# Altium integrated library Logic Gates.IntLib: 7 symbols
Pins are listed as number, name and electrical type; pins without a type are passive.

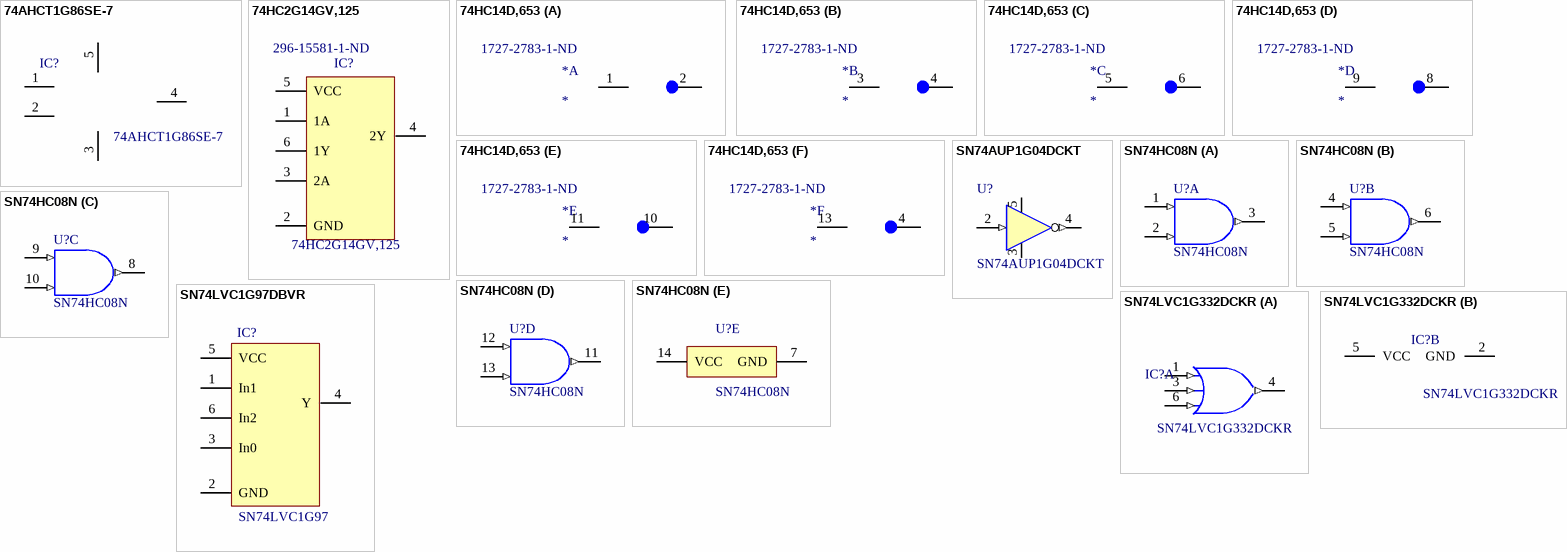
[diagram p0: symbols 74AHCT1G86SE-7 to SN74LVC1G332DCKR]

## 74AHCT1G86SE-7
designator IC?
IC GATE XOR 1CH 2-INP SOT-353; Manufacturer: Diodes Incorporated; Logic Type: XOR (Exclusive OR); Number of Circuits: 1; Number of Inputs: 2; Voltage - Supply: 4.5 V ~ 5.5 V; Current - Quiescent (Max): 1µA; Current - Output High, Low: 8mA, 8mA; Logic Level - Low: 0.8V; Logic Level - High: 2V; Max Propagation Delay @ V, Max CL: 7.9ns @ 5V, 50pF; Supplier 1: Digi-Key; Supplier Part Number 1: 74AHCT1G86SE-7DICT-ND; Manufacturer Part Number: 74AHCT1G86SE-7; RoHS: RoHS Compliant; Category: Integrated Circuits (ICs); Stock 1: 3689; Pricing 1: 1=0.25, 10=0.205, 100=0.1086, 500=0.07142, 1000=0.04866 (USD); Packaging: Cut Tape (CT); Features: -; Operating Temperature: -40°C ~ 125°C; Mounting Type: Surface Mount; Supplier Device Package: SOT-353; Package / Case: 5-TSSOP, SC-70-5, SOT-353; ComponentLink1URL: http://www.diodes.com/_files/datasheets/74AHCT1G86.pdf; ComponentLink1Description: http://www.diodes.com/_files/datasheets/74AHCT1G86.pdf; Value: 74AHCT1G86SE-7
footprint SOT65P197X110-5N (SOT23, 5-Leads, Body 2,00x1,97mm, Pitch 0,65mm, IPC Medium Density)
pins: 1 A, 2 B, 3 GND, 4 Y, 5 VCC

## 74HC2G14GV,125
designator IC?  Supplier Part Number 2: 296-15581-1-ND
IC INVERTER SCHMITT 2CH 6TSOP; Manufacturer: Nexperia; Min Supply Voltage: 1.65V; Max Supply Voltage: 5.5V; Logic Function: Multi Function; Quiescent Current: 10uA; Number of Inputs: 3; Propagation Delay: 6.3ns; Number of Circuits: 1; High Level Output Current: -32mA; Low Level Output Current: 32mA; Number of Input Lines: 2; Schmitt Trigger Input: Yes; Turn-On Delay Time: 6.1ns; Operating Supply Voltage: 5V; Supplier 1: Digi-Key; Manufacturer Part Number: 74HC2G14GV,125; Stock 1: 52335; Pricing 1: 1 = 0,37000, 10 = 0,29800, 25 = 0,27240, 100 = 0,20270, 250 = 0,18372, 500 = 0,15204, 1000 = 0,11403 (USD); RoHS: No; ComponentLink1URL: https://assets.nexperia.com/documents/data-sheet/74HC_HCT2G14.pdf?src-supplier=Digi-Key; ComponentLink1Description: https://assets.nexperia.com/documents/data-sheet/74HC_HCT2G14.pdf?src-supplier=Digi-Key; Supplier Part Number 1: 1727-6046-1-ND; Supplier 2: Digi-Key; Stock 2: 53949; Pricing 2: 1 = 0,38000, 10 = 0,28300, 100 = 0,17610, 500 = 0,12052, 1000 = 0,09270 (USD); Mount: Surface Mount; Case/Package: SOT-23; Number of Pins: 6; Weight: 0.000229oz; Contact Plating: Gold; Min Operating Temperature: -40°C; Max Operating Temperature: 125°C; Packaging: Tape and Reel; Package Quantity: 3000; Number of Gates: 1; Number of Output Lines: 1; Number of Bits: 1; Number of Outputs: 1; Number of Elements: 1; Output Current: 32mA; Max Output Current: 32mA; Termination: SMD/SMT; Length: 2.9mm; Height: 1.15mm; Width: 1.6mm; Radiation Hardening: No; Lead Free: Lead Free; REACH SVHC: No SVHC; ComponentLink2URL: https://datasheet.ciiva.com/34303/2017130-34303874.pdf?src-supplier=Jameco; ComponentLink2Description: https://datasheet.ciiva.com/34303/2017130-34303874.pdf?src-supplier=Jameco; ComponentLink3URL: https://datasheet.ciiva.com/6124/1768118-6124640.pdf?src-supplier=Farnell; ComponentLink3Description: https://datasheet.ciiva.com/6124/1768118-6124640.pdf?src-supplier=Farnell; ComponentLink4URL: https://datasheet.ciiva.com/1880/sn74lvc1g97-1880068.pdf?src-supplier=Digi-Key; ComponentLink4Description: https://datasheet.ciiva.com/1880/sn74lvc1g97-1880068.pdf?src-supplier=Digi-Key; ComponentLink5URL: https://datasheet.ciiva.com/1880/sn74lvc1g97-1880069.pdf?src-supplier=Digi-Key; ComponentLink5Description: https://datasheet.ciiva.com/1880/sn74lvc1g97-1880069.pdf?src-supplier=Digi-Key; ComponentLink6URL: https://datasheet.ciiva.com/7783/1768118-7783605.pdf?src-supplier=Element14; ComponentLink6Description: https://datasheet.ciiva.com/7783/1768118-7783605.pdf?src-supplier=Element14; ComponentLink7URL: https://datasheet.ciiva.com/46398/1885873-46398039.pdf?src-supplier=Element14; ComponentLink7Description: https://datasheet.ciiva.com/46398/1885873-46398039.pdf?src-supplier=Element14; ComponentLink8URL: https://datasheet.ciiva.com/26046/sn74lvc1g97-26046888.pdf?src-supplier=Avnet+Europe; ComponentLink8Description: https://datasheet.ciiva.com/26046/sn74lvc1g97-26046888.pdf?src-supplier=Avnet+Europe; ComponentLink9URL: https://datasheet.ciiva.com/1880/sn74lvc1g97-1880067.pdf?src-supplier=Digi-Key; ComponentLink9Description: https://datasheet.ciiva.com/1880/sn74lvc1g97-1880067.pdf?src-supplier=Digi-Key; ComponentLink10URL: https://datasheet.ciiva.com/7783/1768118-7783606.pdf?src-supplier=Element14; ComponentLink10Description: https://datasheet.ciiva.com/7783/1768118-7783606.pdf?src-supplier=Element14; ComponentLink11URL: https://datasheet.ciiva.com/46395/1885873-46395383.pdf?src-supplier=Element14; ComponentLink11Description: https://datasheet.ciiva.com/46395/1885873-46395383.pdf?src-supplier=Element14; ComponentLink12URL: https://datasheet.ciiva.com/14290/sn74lvc1g97-14290813.pdf?src-supplier=Avnet; ComponentLink12Description: https://datasheet.ciiva.com/14290/sn74lvc1g97-14290813.pdf?src-supplier=Avnet; ComponentLink13URL: https://datasheet.ciiva.com/48702/001075111-da-01-en-ic-config-m-sn74lvc1g97dbvr-sot-23-6-tid-48702378.pdf?src-supplier=Conrad; ComponentLink13Description: https://datasheet.ciiva.com/48702/001075111-da-01-en-ic-config-m-sn74lvc1g97dbvr-sot-23-6-tid-48702378.pdf?src-supplier=Conrad
footprint *SOT95P275X110-6N
pins: 1 1A, 2 GND, 3 2A, 4 2Y, 5 VCC, 6 1Y

## 74HC14D,653
designator *  Supplier Part Number 1: 1727-2783-1-ND
IC INVERTER SCHMITT 6CH 14SO; Manufacturer: Nexperia; Manufacturer Part Number: 74HC14D,653; Supplier 1: Digi-Key; Stock 1: 130240; Pricing 1: 1 = 0,39000, 10 = 0,29600, 25 = 0,26680, 100 = 0,18430, 250 = 0,15516, 500 = 0,12608, 1000 = 0,09698 (USD); RoHS: No; ComponentLink1URL: http://www.farnell.com/datasheets/2000343.pdf?src-supplier=Farnell; ComponentLink1Description: http://www.farnell.com/datasheets/2000343.pdf?src-supplier=Farnell; ComponentLink2URL: https://assets.nexperia.com/documents/data-sheet/74HC_HCT14.pdf?src-supplier=Digi-Key; ComponentLink2Description: https://assets.nexperia.com/documents/data-sheet/74HC_HCT14.pdf?src-supplier=Digi-Key; ComponentLink3URL: http://www.farnell.com/datasheets/2000343.pdf?src-supplier=Newark; ComponentLink3Description: http://www.farnell.com/datasheets/2000343.pdf?src-supplier=Newark
part A pins: 1 A, 2 A
part B pins: 3 B, 4 B
part C pins: 5 C, 6 C
part D pins: 8 D, 9 D
part E pins: 10 E, 11 E
part F pins: 4 B, 13 B

## SN74AUP1G04DCKT
designator U?
IC INVERTER 1CH 1-INP SC70-5; Manufacturer 1: Texas Instruments; Output Current: 4mA; Number of Inputs: 1; Min Supply Voltage: 800mV; Max Supply Voltage: 3.6V; Logic Function: Buffer,Inverter; Propagation Delay: 19ns; Quiescent Current: 500nA; High Level Output Current: -4mA; Turn-On Delay Time: 5.4ns; Schmitt Trigger Input: No; Supplier 1: Digi-Key; Manufacturer Part Number 1: SN74AUP1G04DCKT; Stock 1: 1210; Pricing 1: 1=0,84000, 10=0,73900, 25=0,69440, 100=0,56670 (USD); RoHS: Yes; Mount: Surface Mount; Case/Package: SC; Number of Pins: 5; Weight: 8.8E-05oz; Min Operating Temperature: -40°C; Max Operating Temperature: 85°C; Max Output Current: 4mA; Packaging: Tape and Reel; Number of Elements: 1; Package Quantity: 1; Number of Circuits: 1; Low Level Output Current: 4mA; Termination: SMD/SMT; Number of Gates: 1; Number of Bits: 1; Length: 2mm; Height: 0.9mm; Width: 1.25mm; Radiation Hardening: No; REACH SVHC: No SVHC; Lead Free: Lead Free; ComponentLink1URL: https://datasheet.ciiva.com/4219/1085sn74aup1g04-4219910.pdf?src-supplier=Arrow; ComponentLink1Description: https://datasheet.ciiva.com/4219/1085sn74aup1g04-4219910.pdf?src-supplier=Arrow; ComponentLink2URL: https://datasheet.ciiva.com/15088/getdatasheetpartid-29642-15088984.pdf?src-supplier=Verical; ComponentLink2Description: https://datasheet.ciiva.com/15088/getdatasheetpartid-29642-15088984.pdf?src-supplier=Verical; ComponentLink3URL: https://datasheet.ciiva.com/41457/001016492-da-01-en-ic-sgl-lp-sn74-sn74aup1g04dckt-sot-5-tid-41457121.pdf?src-supplier=Conrad; ComponentLink3Description: https://datasheet.ciiva.com/41457/001016492-da-01-en-ic-sgl-lp-sn74-sn74aup1g04dckt-sot-5-tid-41457121.pdf?src-supplier=Conrad; ComponentLink4URL: https://datasheet.ciiva.com/14288/sn74aup1g04-14288794.pdf?src-supplier=Avnet; ComponentLink4Description: https://datasheet.ciiva.com/14288/sn74aup1g04-14288794.pdf?src-supplier=Avnet; ComponentLink5URL: https://datasheet.ciiva.com/7783/1722694-7783277.pdf?src-supplier=Element14; ComponentLink5Description: https://datasheet.ciiva.com/7783/1722694-7783277.pdf?src-supplier=Element14; ComponentLink6URL: https://datasheet.ciiva.com/7783/1722694-7783278.pdf?src-supplier=Element14; ComponentLink6Description: https://datasheet.ciiva.com/7783/1722694-7783278.pdf?src-supplier=Element14; ComponentLink7URL: https://datasheet.ciiva.com/6619/sn74aup1g04-6619743.pdf?src-supplier=Digi-Key; ComponentLink7Description: https://datasheet.ciiva.com/6619/sn74aup1g04-6619743.pdf?src-supplier=Digi-Key; Value: SN74AUP1G04DCKT; Supplier Part Number 1: 296-32254-1-ND
footprint SC70-5
pins: 2 A (in), 3 GND, 4 Y (out), 5 VCC

## SN74HC08N
designator U?
TEXAS INSTRUMENTS - SN74HC08N - IC, QUAD 2-INPUT AND, 74HC08, DIP14; Number of Bits: 4; Schmitt Trigger Input: No; Number of Input Lines: 2; Number of Output Lines: 1; Low Level Output Current: 5.2mA; Quiescent Current: 2uA; High Level Output Current: -5.2mA; Turn-On Delay Time: 21ns; Operating Supply Voltage: 5V; Max Supply Voltage: 6V; Min Supply Voltage: 2V; Max Output Current: 4mA; Supplier 1: Digi-Key; Manufacturer 1: Texas Instruments; Manufacturer Part Number 1: SN74HC08N; RoHS: Yes; Category: Logic Gates; Stock 1: 5266; Pricing 1: 1=0,39000, 10=0,33800, 25=0,31520, 100=0,25200, 250=0,23400, 500=0,19800, 1000=0,15300, 2500=0,13950, 5000=0,13050 (USD); Mount: Through Hole; Case/Package: PDIP; Number of Pins: 14; Weight: 0.032734oz; Contact Plating: Gold; Min Operating Temperature: -40°C; Max Operating Temperature: 85°C; Number of Gates: 4; Number of Circuits: 4; Propagation Delay: 21ns; Packaging: Rail/Tube; Number of Outputs: 1; Output Current: 5.2mA; Number of Inputs: 2; Logic Function: AND; Number of Elements: 4; Package Quantity: 25; Length: 19.3mm; Height: 4.57mm; Width: 6.35mm; Radiation Hardening: No; REACH SVHC: No SVHC; Lead Free: Lead Free; ComponentLink1URL: https://datasheet.ciiva.com/26048/sn54hc08-sp-26048288.pdf?src-supplier=Avnet+Europe; ComponentLink1Description: https://datasheet.ciiva.com/26048/sn54hc08-sp-26048288.pdf?src-supplier=Avnet+Europe; ComponentLink2URL: https://datasheet.ciiva.com/41457/001016637-da-01-en-ic-qua-2in-and-g-s-sn74hc08n-pdip-14-tid-41457005.pdf?src-supplier=Conrad; ComponentLink2Description: https://datasheet.ciiva.com/41457/001016637-da-01-en-ic-qua-2in-and-g-s-sn74hc08n-pdip-14-tid-41457005.pdf?src-supplier=Conrad; ComponentLink3URL: https://datasheet.ciiva.com/1865/sn74hc08-1865974.pdf?src-supplier=Digi-Key; ComponentLink3Description: https://datasheet.ciiva.com/1865/sn74hc08-1865974.pdf?src-supplier=Digi-Key; ComponentLink4URL: https://datasheet.ciiva.com/14290/sn54hc08-sp-14290524.pdf?src-supplier=Avnet; ComponentLink4Description: https://datasheet.ciiva.com/14290/sn54hc08-sp-14290524.pdf?src-supplier=Avnet; Value: SN74HC08N; Supplier Part Number 1: 296-1570-5-ND
footprint D14D (DIP, 14-Pin, Row Spacing 7.62 mm, Pitch 2.54 mm)
part A pins: 1 1A (in), 2 1B (in), 3 1Y (out)
part B pins: 4 2A (in), 5 2B (in), 6 2Y (out)
part C pins: 8 3Y (out), 9 3A (in), 10 3B (in)
part D pins: 11 4Y (out), 12 4A (in), 13 4B (in)
part E pins: 7 GND, 14 VCC

## SN74LVC1G97DBVR
designator IC?, comment SN74LVC1G97
IC CONFIG MULT-FUNC GATE SOT23-6; Manufacturer: Texas Instruments; Manufacturer Part Number: SN74LVC1G97DBVR; Min Supply Voltage: 1.65V; Max Supply Voltage: 5.5V; Logic Function: Multi Function; Quiescent Current: 10uA; Number of Inputs: 3; Propagation Delay: 6.3ns; Number of Circuits: 1; High Level Output Current: -32mA; Low Level Output Current: 32mA; Number of Input Lines: 2; Schmitt Trigger Input: Yes; Turn-On Delay Time: 6.1ns; Operating Supply Voltage: 5V; RoHS: Yes; Mount: Surface Mount; Case/Package: SOT-23; Number of Pins: 6; Weight: 0.000229oz; Contact Plating: Gold; Min Operating Temperature: -40°C; Max Operating Temperature: 125°C; Packaging: Tape and Reel; Package Quantity: 3000; Number of Gates: 1; Number of Output Lines: 1; Number of Bits: 1; Number of Outputs: 1; Number of Elements: 1; Output Current: 32mA; Max Output Current: 32mA; Termination: SMD/SMT; Length: 2.9mm; Height: 1.15mm; Width: 1.6mm; Radiation Hardening: No; Lead Free: Lead Free; REACH SVHC: No SVHC; ComponentLink1URL: https://datasheet.ciiva.com/34303/2017130-34303874.pdf?src-supplier=Jameco; ComponentLink1Description: https://datasheet.ciiva.com/34303/2017130-34303874.pdf?src-supplier=Jameco; ComponentLink2URL: https://datasheet.ciiva.com/6124/1768118-6124640.pdf?src-supplier=Farnell; ComponentLink2Description: https://datasheet.ciiva.com/6124/1768118-6124640.pdf?src-supplier=Farnell; ComponentLink3URL: https://datasheet.ciiva.com/1880/sn74lvc1g97-1880068.pdf?src-supplier=Digi-Key; ComponentLink3Description: https://datasheet.ciiva.com/1880/sn74lvc1g97-1880068.pdf?src-supplier=Digi-Key; ComponentLink4URL: https://datasheet.ciiva.com/1880/sn74lvc1g97-1880069.pdf?src-supplier=Digi-Key; ComponentLink4Description: https://datasheet.ciiva.com/1880/sn74lvc1g97-1880069.pdf?src-supplier=Digi-Key; ComponentLink5URL: https://datasheet.ciiva.com/7783/1768118-7783605.pdf?src-supplier=Element14; ComponentLink5Description: https://datasheet.ciiva.com/7783/1768118-7783605.pdf?src-supplier=Element14; ComponentLink6URL: https://datasheet.ciiva.com/46398/1885873-46398039.pdf?src-supplier=Element14; ComponentLink6Description: https://datasheet.ciiva.com/46398/1885873-46398039.pdf?src-supplier=Element14; ComponentLink7URL: https://datasheet.ciiva.com/26046/sn74lvc1g97-26046888.pdf?src-supplier=Avnet+Europe; ComponentLink7Description: https://datasheet.ciiva.com/26046/sn74lvc1g97-26046888.pdf?src-supplier=Avnet+Europe; ComponentLink8URL: https://datasheet.ciiva.com/1880/sn74lvc1g97-1880067.pdf?src-supplier=Digi-Key; ComponentLink8Description: https://datasheet.ciiva.com/1880/sn74lvc1g97-1880067.pdf?src-supplier=Digi-Key; ComponentLink9URL: https://datasheet.ciiva.com/7783/1768118-7783606.pdf?src-supplier=Element14; ComponentLink9Description: https://datasheet.ciiva.com/7783/1768118-7783606.pdf?src-supplier=Element14; ComponentLink10URL: https://datasheet.ciiva.com/46395/1885873-46395383.pdf?src-supplier=Element14; ComponentLink10Description: https://datasheet.ciiva.com/46395/1885873-46395383.pdf?src-supplier=Element14; ComponentLink11URL: https://datasheet.ciiva.com/14290/sn74lvc1g97-14290813.pdf?src-supplier=Avnet; ComponentLink11Description: https://datasheet.ciiva.com/14290/sn74lvc1g97-14290813.pdf?src-supplier=Avnet; ComponentLink12URL: https://datasheet.ciiva.com/48702/001075111-da-01-en-ic-config-m-sn74lvc1g97dbvr-sot-23-6-tid-48702378.pdf?src-supplier=Conrad; ComponentLink12Description: https://datasheet.ciiva.com/48702/001075111-da-01-en-ic-config-m-sn74lvc1g97dbvr-sot-23-6-tid-48702378.pdf?src-supplier=Conrad
footprint SOT23-6
footprint SC70-6 (SC70-6, Body 2.00x2.10mm, Pitch 0.65mm, IPC High Density)
pins: 1 In1, 2 GND, 3 In0, 4 Y, 5 VCC, 6 In2

## SN74LVC1G332DCKR
designator IC?
IC GATE OR 1CH 3-INP SC70-6; Supplier 1: Digi-Key; Supplier Part Number 1: 296-15943-1-ND
footprint DCK0006A_L (SOT23, 6-Leads, Body 2.15x1.4mm, Pitch 0.65mm, IPC High Density)
footprint DCK0006A_M (SOT23, 6-Leads, Body 2.15x1.4mm, Pitch 0.65mm, IPC Low Density)
footprint DCK0006A_N (SOT23, 6-Leads, Body 2.15x1.4mm, Pitch 0.65mm, IPC Medium Density)
part A pins: 1 A (in), 3 B (in), 4 Y (out), 6 C (in)
part B pins: 2 GND (power), 5 VCC (power)